# Altium footprint library Diode_THT.PcbLib: 2 footprints
Each footprint in its own frame and in the unit in brackets; x right, y up, seen from the top. Pads: shape width x height; smd on the part's side, far side on the other; paste and mask are expansions set on the pad; w line width, h text height; cw(c..) or ccw(c..) is an arc to the next point about the centre after c.
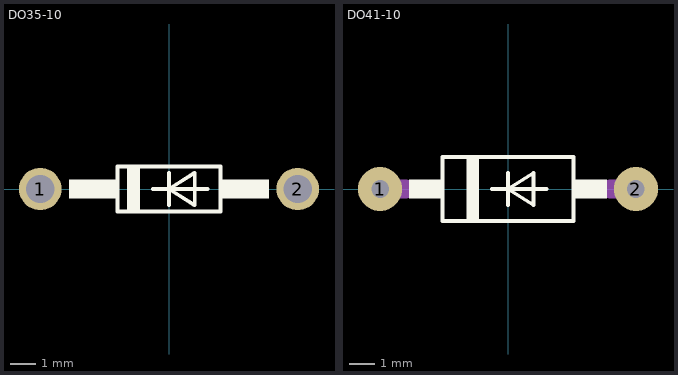
[diagram p0: the footprints below, top view; thin cyan lines are the x and y axes]

## DO35-10 [mil]
pads (2):
  round 66 hole 44: 1(-200,0) 2(200,0)
Top Overlay:
  rectangle: -65,-35 -45,35
  rectangle: 80,-15 155,15
  rectangle: -155,-15 -80,15
  lines w6: -25,0 0,0 ; 0,-25 0,0 ; 0,25 0,0 ; 60,0 0,0 ; 0,0 40,-25 40,25 0,0 ; -80,-35 80,-35 80,35 -80,35 -80,-35
3D body: height 84.5, standoff -100, extent -210.49,-34.5 210.5,34.5

## DO41-10 [mil]
pads (2):
  round 69 hole 27.56: 1(-200,0) 2(200,0)
Top Overlay:
  rectangle: -155,-15 -102.36,15
  rectangle: 102.36,-15 155,15
  rectangle: -65,-50 -45,50
  lines w6: -25,0 0,0 ; 0,-25 0,0 ; 0,25 0,0 ; 60,0 0,0 ; 0,0 40,25 40,-25 0,0 ; -102.36,-50 -102.36,50 102.36,50 102.36,-50 -102.36,-50
Mechanical 16:
  lines w30: -200,0 -160,0 ; 160,0 200,0
3D body: height 127.09, standoff -82.36, extent -217,-53.53 217.02,53.55